# Altium schematic symbol library SCH_Power.SchLib: 44 symbols
Pins are listed as number, name and electrical type; pins without a type are passive.

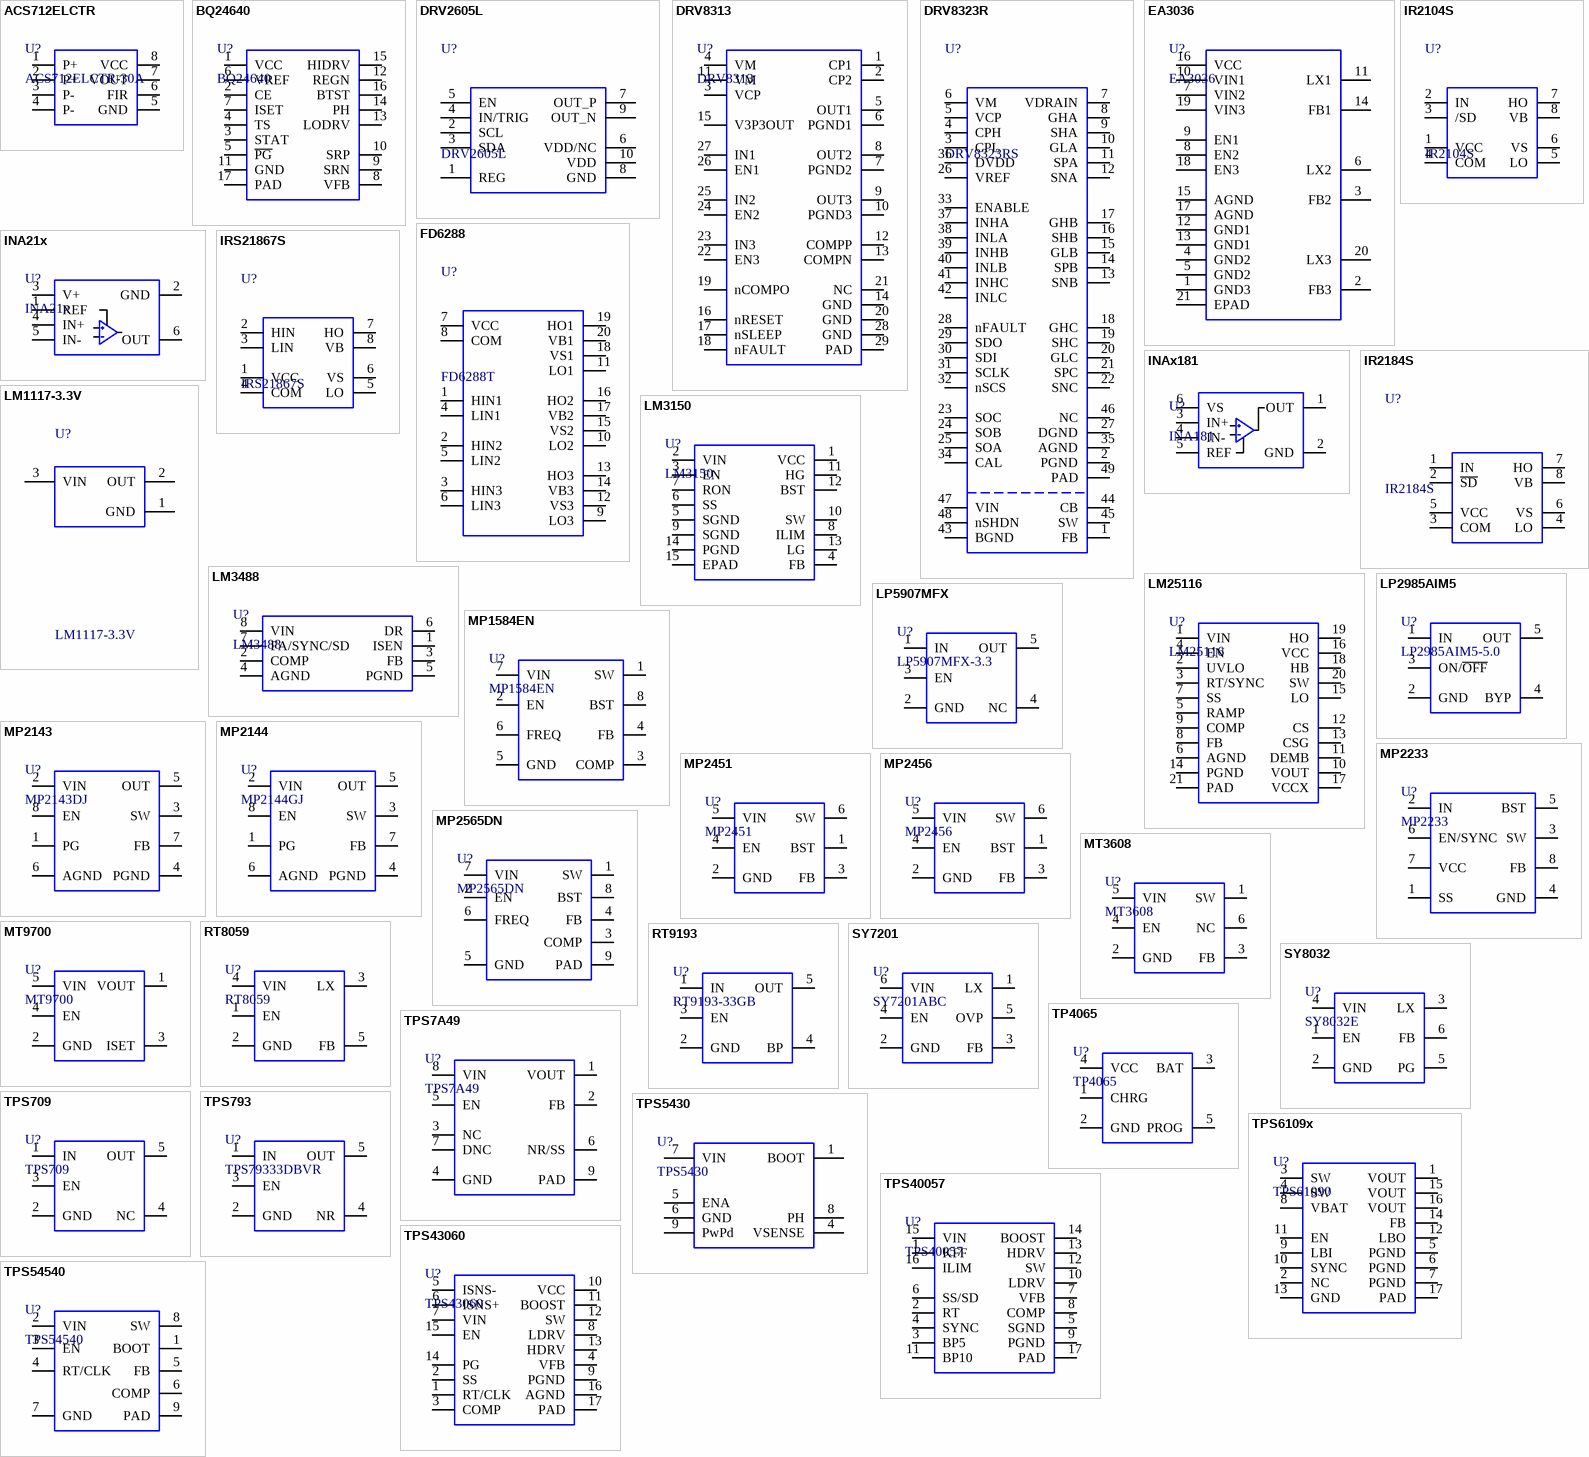
[diagram p0: symbols ACS712ELCTR to TPS54540]

## ACS712ELCTR
designator U?, comment ACS712ELCTR-30A
电流测量芯片
footprint SOP-8-P1.27
pins: 1 P+, 2 P+, 3 P-, 4 P-, 5 GND, 6 FIR, 7 VOUT, 8 VCC

## BQ24640
designator U?
用于超级电容器的高效同步开关模式电池充电控制器
footprint VQFN-16-P0.5
pins: 1 VCC, 2 CE, 3 STAT, 4 TS, 5 ~{PG}, 6 VREF, 7 ISET, 8 VFB, 9 SRN, 10 SRP, 11 GND, 12 REGN, 13 LODRV, 14 PH, 15 HIDRV, 16 BTST, 17 PAD

## DRV2605L
designator U?
Haptic driver for ERM/LRA with waveform memory & auto-resonance tracking
footprint VSSOP-10-P0.5
pins: 1 REG, 2 SCL, 3 SDA, 4 IN/TRIG, 5 EN, 6 VDD/NC, 7 OUT_P, 8 GND, 9 OUT_N, 10 VDD

## DRV8313
designator U?
footprint HTSSOP-28-P0.65
pins: 1 CP1, 2 CP2, 3 VCP, 4 VM, 5 OUT1, 6 PGND1, 7 PGND2, 8 OUT2, 9 OUT3, 10 PGND3, 11 VM, 12 COMPP, 13 COMPN, 14 GND, 15 V3P3OUT, 16 nRESET, 17 nSLEEP, 18 nFAULT, 19 nCOMPO, 20 GND, 21 NC, 22 EN3, 23 IN3, 24 EN2, 25 IN2, 26 EN1, 27 IN1, 28 GND, 29 PAD

## DRV8323R
designator U?, comment DRV8323RS
具有降压稳压器和三个分流放大器的 60V 三相智能栅极驱动器
footprint VQFN-48-P0.5
pins: 1 FB, 2 PGND, 3 CPL, 4 CPH, 5 VCP, 6 VM, 7 VDRAIN, 8 GHA, 9 SHA, 10 GLA, 11 SPA, 12 SNA, 13 SNB, 14 SPB, 15 GLB, 16 SHB, 17 GHB, 18 GHC, 19 SHC, 20 GLC, 21 SPC, 22 SNC, 23 SOC, 24 SOB, 25 SOA, 26 VREF, 27 DGND, 28 nFAULT, 29 SDO, 30 SDI, 31 SCLK, 32 nSCS, 33 ENABLE, 34 CAL, 35 AGND, 36 DVDD, 37 INHA, 38 INLA, 39 INHB, 40 INLB, 41 INHC, 42 INLC, 43 BGND, 44 CB, 45 SW, 46 NC, 47 VIN, 48 nSHDN, 49 PAD

## EA3036
designator U?
3CH Power Management IC
footprint QFN-20-3.0X3.0-P0.4 (QFN, 20-Leads, Body 3.00x3.00mm, Pitch 0.40mm, Thermal Pad 1.50x1.50mm, IPC Medium Density)
pins: 1 GND3, 2 FB3, 3 FB2, 4 GND2, 5 GND2, 6 LX2, 7 VIN2, 8 EN2, 9 EN1, 10 VIN1, 11 LX1, 12 GND1, 13 GND1, 14 FB1, 15 AGND, 16 VCC, 17 AGND, 18 EN3, 19 VIN3, 20 LX3, 21 EPAD

## FD6288
designator U?, comment FD6288T
三相250V栅极驱动器
footprint TSSOP-20-P0.65
pins: 1 HIN1, 2 HIN2, 3 HIN3, 4 LIN1, 5 LIN2, 6 LIN3, 7 VCC, 8 COM, 9 LO3, 10 LO2, 11 LO1, 12 VS3, 13 HO3, 14 VB3, 15 VS2, 16 HO2, 17 VB2, 18 VS1, 19 HO1, 20 VB1

## INA21x
designator U?
低侧/高侧、电压输出电流分流监控器
footprint SOT-23-6
pins: 1 REF, 2 GND, 3 V+, 4 IN+, 5 IN-, 6 OUT

## INAx181
designator U?, comment INA181
低侧/高侧、电压输出电流分流监控器
footprint SOT-23-6
pins: 1 OUT, 2 GND, 3 IN+, 4 IN-, 5 REF, 6 VS

## IR2104S
designator U?
footprint SOP-8-P1.27
pins: 1 VCC, 2 IN, 3 /SD, 4 COM, 5 LO, 6 VS, 7 HO, 8 VB

## IR2184S
designator U?
footprint SOP-8-P1.27
pins: 1 IN, 2 ~{SD}, 3 COM, 4 LO, 5 VCC, 6 VS, 7 HO, 8 VB

## IRS21867S
designator U?
footprint SOP-8-P1.27
pins: 1 VCC, 2 HIN, 3 LIN, 4 COM, 5 LO, 6 VS, 7 HO, 8 VB

## LM1117-3.3V
designator U?
footprint SOT-223-3
pins: 1 GND, 2 OUT, 3 VIN

## LM3150
designator U?
具有可调输出电压的 6V 至 42V 同步降压控制器
footprint HTSSOP-14-P0.65
pins: 1 VCC, 2 VIN, 3 EN, 4 FB, 5 SGND, 6 SS, 7 RON, 8 ILIM, 9 SGND, 10 SW, 11 HG, 12 BST, 13 LG, 14 PGND, 15 EPAD

## LM3488
designator U?
Automotive High-Efficiency Controller for Boost, SEPIC and Fly-Back DC-DCConverters
footprint VSSOP-8-P0.65
pins: 1 ISEN, 2 COMP, 3 FB, 4 AGND, 5 PGND, 6 DR, 7 FA/SYNC/SD, 8 VIN

## LM25116
designator U?
42V 宽输入电压同步降压控制器
footprint HTSSOP-20-P0.65
pins: 1 VIN, 2 UVLO, 3 RT/SYNC, 4 EN, 5 RAMP, 6 AGND, 7 SS, 8 FB, 9 COMP, 10 VOUT, 11 DEMB, 12 CS, 13 CSG, 14 PGND, 15 LO, 16 VCC, 17 VCCX, 18 HB, 19 HO, 20 SW, 21 PAD

## LP2985AIM5
designator U?, comment LP2985AIM5-5.0
5.0-LDO
footprint SOT-23-5
pins: 1 IN, 2 GND, 3 ON/~{OFF}, 4 BYP, 5 OUT

## LP5907MFX
designator U?, comment LP5907MFX-3.3
footprint SOT-23-5
pins: 1 IN, 2 GND, 3 EN, 4 NC, 5 OUT

## MP1584EN
designator U?
footprint HSOP-8-P1.27
pins: 1 SW, 2 EN, 3 COMP, 4 FB, 5 GND, 6 FREQ, 7 VIN, 8 BST

## MP2143
designator U?, comment MP2143DJ
3A, 5.5V, 1.2MHz, 40μA I Q , COT Synchronous Step Down Switcher
footprint SOT-23-8
pins: 1 PG, 2 VIN, 3 SW, 4 PGND, 5 OUT, 6 AGND, 7 FB, 8 EN

## MP2144
designator U?, comment MP2144GJ
footprint SOT-23-8
pins: 1 PG, 2 VIN, 3 SW, 4 PGND, 5 OUT, 6 AGND, 7 FB, 8 EN

## MP2233
designator U?
footprint SOT-23-8
pins: 1 SS, 2 IN, 3 SW, 4 GND, 5 BST, 6 EN/SYNC, 7 VCC, 8 FB

## MP2451
designator U?
footprint SOT-23-6
pins: 1 BST, 2 GND, 3 FB, 4 EN, 5 VIN, 6 SW

## MP2456
designator U?
footprint SOT-23-6
pins: 1 BST, 2 GND, 3 FB, 4 EN, 5 VIN, 6 SW

## MP2565DN
designator U?
2.5A, 4MHz, 50V
footprint HSOP-8-P1.27
pins: 1 SW, 2 EN, 3 COMP, 4 FB, 5 GND, 6 FREQ, 7 VIN, 8 BST, 9 PAD

## MT3608
designator U?
footprint SOT-23-6
pins: 1 SW, 2 GND, 3 FB, 4 EN, 5 VIN, 6 NC

## MT9700
designator U?
Current-Limited Power-Distribution Switch
footprint SOT-23-5
pins: 1 VOUT, 2 GND, 3 ISET, 4 EN, 5 VIN

## RT8059
designator U?
1.5MHz, 1A, High Efficiency PWM Step-Down DC/DC Converter
footprint SOT-23-5
pins: 1 EN, 2 GND, 3 LX, 4 VIN, 5 FB

## RT9193
designator U?, comment RT9193-33GB
LDO
footprint SOT-23-5
pins: 1 IN, 2 GND, 3 EN, 4 BP, 5 OUT

## SY7201
designator U?, comment SY7201ABC
30V High Current Boost LED Driver
footprint SOT-23-6
pins: 1 LX, 2 GND, 3 FB, 4 EN, 5 OVP, 6 VIN

## SY8032
designator U?, comment SY8032E
High Efficiency 1MHz, 2.5A Continuous, 3A Peak, Synchronous Step Down Regulator
footprint SOT-23-5
pins: 1 EN, 2 GND, 3 LX, 4 VIN, 5 PG, 6 FB

## TP4065
designator U?
TP4065线性锂离子电池充电器
footprint SOT-23-5
pins: 1 CHRG, 2 GND, 3 BAT, 4 VCC, 5 PROG

## TPS7A49
designator U?
150-mA, 36-V, low-noise, high-PSRR, adjustable low-dropout voltage regulator with enable
footprint VSSOP-8-P0.65-EPAD
pins: 1 VOUT, 2 FB, 3 NC, 4 GND, 5 EN, 6 NR/SS, 7 DNC, 8 VIN, 9 PAD

## TPS709
designator U?
具有使能端的 150-mA 超低 Iq LDO
footprint SOT-23-5
pins: 1 IN, 2 GND, 3 EN, 4 NC, 5 OUT

## TPS793
designator U?, comment TPS79333DBVR
3.3-LDO
footprint SOT-23-5
pins: 1 IN, 2 GND, 3 EN, 4 NR, 5 OUT

## TPS5430
designator U?
footprint HSOP-8-P1.27
pins: 1 BOOT, 4 VSENSE, 5 ENA, 6 GND, 7 VIN, 8 PH, 9 PwPd

## TPS6109x
designator U?, comment TPS61090
Synchronous Boost Converter With 2-A Switch
footprint QFN-16-4.0X4.0-P0.65
pins: 1 VOUT, 2 NC, 3 SW, 4 SW, 5 PGND, 6 PGND, 7 PGND, 8 VBAT, 9 LBI, 10 SYNC, 11 EN, 12 LBO, 13 GND, 14 FB, 15 VOUT, 16 VOUT, 17 PAD

## TPS40057
designator U?
footprint HTSSOP-16-P0.65
pins: 1 KFF, 2 RT, 3 BP5, 4 SYNC, 5 SGND, 6 SS/SD, 7 VFB, 8 COMP, 9 PGND, 10 LDRV, 11 BP10, 12 SW, 13 HDRV, 14 BOOST, 15 VIN, 16 ILIM, 17 PAD

## TPS43060
designator U?
同步升压控制器
footprint WQFN-16-P0.5
pins: 1 RT/CLK, 2 SS, 3 COMP, 4 VFB, 5 ISNS-, 6 ISNS+, 7 VIN, 8 LDRV, 9 PGND, 10 VCC, 11 BOOST, 12 SW, 13 HDRV, 14 PG, 15 EN, 16 AGND, 17 PAD

## TPS54540
designator U?
5A, 2.5MHz, 42V
footprint HSOP-8-P1.27
pins: 1 BOOT, 2 VIN, 3 EN, 4 RT/CLK, 5 FB, 6 COMP, 7 GND, 8 SW, 9 PAD

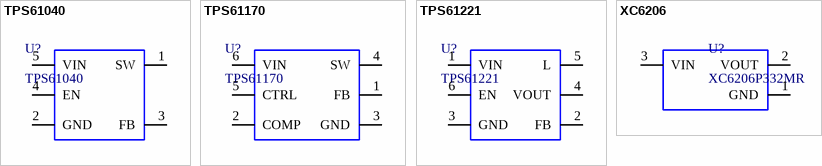
[diagram p1: symbols TPS61040 to XC6206]

## TPS61040
designator U?
400-mA Switch Boost Converter
footprint SOT-23-5
pins: 1 SW, 2 GND, 3 FB, 4 EN, 5 VIN

## TPS61170
designator U?
1.2-A High-Voltage Boost Converter in 2mm x 2mm QFN Package
footprint WSON-6-2.0X2.0-P0.65
pins: 1 FB, 2 COMP, 3 GND, 4 SW, 5 CTRL, 6 VIN

## TPS61221
designator U?
3.3V output voltage, tiny low input voltage boost converter
footprint SOT-23-6
pins: 1 VIN, 2 FB, 3 GND, 4 VOUT, 5 L, 6 EN

## XC6206
designator U?, comment XC6206P332MR
低压差稳压; IMax: 250mA; VinMax: 6V; Vout: 3.3V; Model Number: XC6206P332MR
footprint SOT-23-3
pins: 1 GND, 2 VOUT, 3 VIN